# EAGLE library part XS1-L01A-TQ48 (library xmos)
XCORE Processor
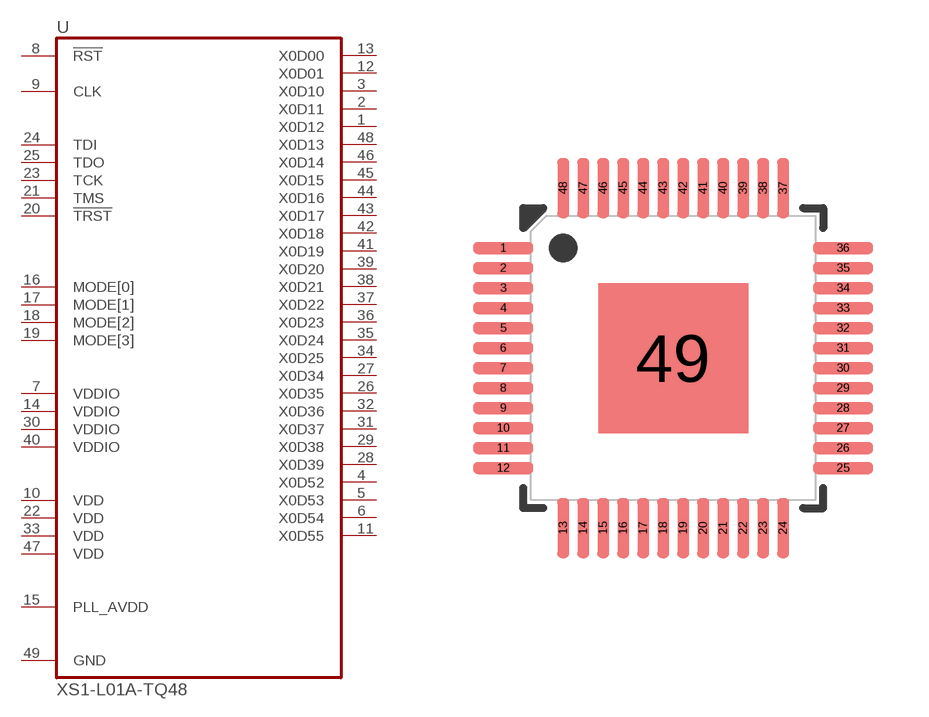
[diagram p1: symbol with the pads of TQ48; footprint TQ48]

Designator prefix U

## XS1-L01A-TQ48  [TQ48]
1  X0D12
2  X0D11
3  X0D10
4  X0D52
5  X0D53
6  X0D54
7  VDDIO  pwr
8  !RST!  in
9  CLK  in
10  VDD  pwr
11  X0D55
12  X0D01
13  X0D00
14  VDDIO  pwr
15  PLL_AVDD  pwr
16  MODE[0]  in
17  MODE[1]  in
18  MODE[2]  in
19  MODE[3]  in
20  !TRST!  in
21  TMS  in
22  VDD  pwr
23  TCK  in
24  TDI  in
25  TDO  out
26  X0D35
27  X0D34
28  X0D39
29  X0D38
30  VDDIO  pwr
31  X0D37
32  X0D36
33  VDD  pwr
34  X0D25
35  X0D24
36  X0D23
37  X0D22
38  X0D21
39  X0D20
40  VDDIO  pwr
41  X0D19
42  X0D18
43  X0D17
44  X0D16
45  X0D15
46  X0D14
47  VDD  pwr
48  X0D13
49  GND  pwr

## Footprint TQ48 (pad centres in mm)
TQFP-48 body 7 x 7 mm, 0.5 mm pitch, , thermal slug
smd 1.5 x 0.3: 1 -4.25,2.75; 2 -4.25,2.25; 3 -4.25,1.75; 4 -4.25,1.25; 5 -4.25,0.75; 6 -4.25,0.25; 7 -4.25,-0.25; 8 -4.25,-0.75; 9 -4.25,-1.25; 10 -4.25,-1.75; 11 -4.25,-2.25; 12 -4.25,-2.75; 25 4.25,-2.75; 26 4.25,-2.25; 27 4.25,-1.75; 28 4.25,-1.25; 29 4.25,-0.75; 30 4.25,-0.25; 31 4.25,0.25; 32 4.25,0.75; 33 4.25,1.25; 34 4.25,1.75; 35 4.25,2.25; 36 4.25,2.75
smd 0.3 x 1.5: 13 -2.75,-4.25; 14 -2.25,-4.25; 15 -1.75,-4.25; 16 -1.25,-4.25; 17 -0.75,-4.25; 18 -0.25,-4.25; 19 0.25,-4.25; 20 0.75,-4.25; 21 1.25,-4.25; 22 1.75,-4.25; 23 2.25,-4.25; 24 2.75,-4.25; 37 2.75,4.25; 38 2.25,4.25; 39 1.75,4.25; 40 1.25,4.25; 41 0.75,4.25; 42 0.25,4.25; 43 -0.25,4.25; 44 -0.75,4.25; 45 -1.25,4.25; 46 -1.75,4.25; 47 -2.25,4.25; 48 -2.75,4.25
smd 3.75 x 3.75: 49 0,0